# Altium schematic symbol library BD139.SchLib: 1 symbol
Pins are listed as number, name and electrical type; pins without a type are passive.

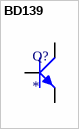
[diagram p0: symbol BD139]

## BD139
designator Q?
pins: 1 B, 2 C, 3 E